# Altium footprint library jetson-tx-camera-adapter.PcbLib: 24 footprints (part 2 of 2)
Each footprint in its own frame and in the unit in brackets; x right, y up, seen from the top. Pads: shape width x height; smd on the part's side, far side on the other; paste and mask are expansions set on the pad; w line width, h text height; cw(c..) or ccw(c..) is an arc to the next point about the centre after c.
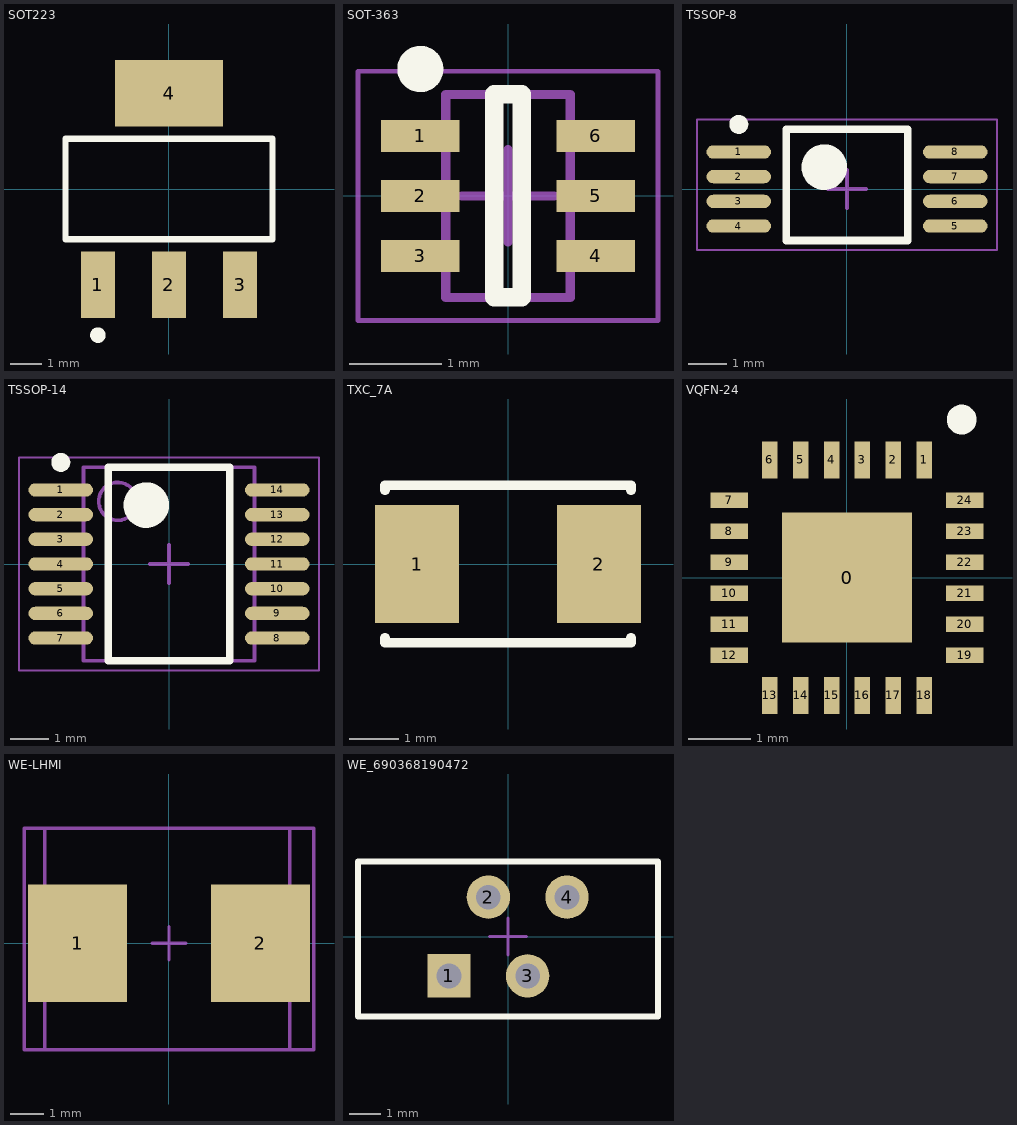
[diagram p1: the footprints below, top view; thin cyan lines are the x and y axes]

## SOT223 [mm] "SOT-223/SC-73; 4 Leads; Body 6.7 x 7.3 mm, inc. leads (LxW max)"
height 1.8
pads (4):
  rect 1.1x2.15 smd: 1(-2.3,-3.1) 2(0,-3.1) 3(2.3,-3.1)
  rect 3.5x2.15 smd: 4(0,3.1)
Top Overlay:
  circle w0.25: c-2.3,-4.725 r0.125
  lines w0.2: -3.35,-1.625 3.35,-1.625 3.35,1.625 -3.35,1.625 -3.35,-1.625
3D body: height 1.61, standoff -0.07, extent -3.25,-3.48 3.25,3.48

## SOT-363 [mm] "6-Leads, Body 2.00x2.10mm, Pitch 0.65mm, IPC Medium Density"
height 1.1
pads (6):
  rect 0.85x0.35 smd: 1(-0.95,0.65) 2(-0.95,0) 3(-0.95,-0.65) 4(0.95,-0.65) 5(0.95,0) 6(0.95,0.65)
Top Overlay:
  circle w0.25: c-0.95,1.375 r0.125
  lines w0.2: -0.15,-1.1 0.15,-1.1 0.15,1.1 -0.15,1.1 -0.15,-1.1
Mechanical 13:
  lines w0.1: -0.675,-1.1 -0.675,1.1 0.675,1.1 0.675,-1.1 -0.675,-1.1
Mechanical 15:
  lines w0.05: -1.625,-1.35 -1.625,1.35 1.625,1.35 1.625,-1.35 -1.625,-1.35
  lines w0.1: -0.5,0 0.5,0 ; 0,-0.5 0,0.5
3D body: height 1, standoff 0, extent -1.15,-1.05 1.15,1.05

## TSSOP-8 [mm]
height 1.1
pads (8):
  oval 1.7x0.35 smd: 1(-2.85,0.975) 2(-2.85,0.325) 3(-2.85,-0.325) 4(-2.85,-0.975) 5(2.85,-0.975) 6(2.85,-0.325) 7(2.85,0.325) 8(2.85,0.975)
Top Overlay:
  circle w0.6: c-0.6,0.575 r0.3
  circle w0.25: c-2.85,1.7 r0.125
  lines w0.2: -1.6,-1.356 1.6,-1.356 1.6,1.575 -1.6,1.575 -1.6,-1.356
Mechanical 3:
  lines w0.05: -3.95,-1.61 -3.95,1.825 3.95,1.825 3.95,-1.61 -3.95,-1.61
  lines w0.1: -0.5,0 0.5,0 ; 0,-0.5 0,0.5
3D body: height 1.21, standoff 0.01, extent -3.2,-1.5 3.2,1.5

## TSSOP-14 [mm]
height 1.1
pads (14):
  oval 1.7x0.35 smd: 1(-2.85,1.95) 2(-2.85,1.3) 3(-2.85,0.65) 4(-2.85,0) 5(-2.85,-0.65) 6(-2.85,-1.3) 7(-2.85,-1.95) 8(2.85,-1.95) 9(2.85,-1.3) 10(2.85,-0.65) 11(2.85,0) 12(2.85,0.65) 13(2.85,1.3) 14(2.85,1.95)
Top Overlay:
  circle w0.25: c-2.85,2.675 r0.125
  circle w0.6: c-0.6,1.55 r0.3
  lines w0.2: -1.6,-2.55 -1.6,2.55 1.6,2.55 1.6,-2.55 -1.6,-2.55
Mechanical 13:
  circle w0.1: c-1.35,1.65 r0.5
  lines w0.1: -2.25,-2.55 -2.25,2.55 2.25,2.55 2.25,-2.55 -2.25,-2.55
Mechanical 15:
  lines w0.05: -3.95,-2.8 -3.95,2.8 3.95,2.8 3.95,-2.8 -3.95,-2.8
  lines w0.1: -0.5,0 0.5,0 ; 0,-0.5 0,0.5
3D body: height 1.1, standoff 0.1, extent -2.25,-2.55 2.25,2.55

## TXC_7A [mm]
height 1.2
pads (2):
  rect 1.7x2.4 smd: 1(-1.85,0) 2(1.85,0)
Top Overlay:
  lines w0.2: -2.5,-1.5 -2.5,-1.6 2.5,-1.6 2.5,-1.5 ; -2.5,1.5 -2.5,1.6 2.5,1.6 2.5,1.5
3D body: height 1.35, standoff 0, extent -2.578,-1.676 2.578,1.676

## VQFN-24 [mm]
height 0.9
pads (25):
  rect 2.1x2.1 smd: 0(0,0)
  rect 0.25x0.6 smd: 1(1.25,1.9) 2(0.75,1.9) 3(0.25,1.9) 4(-0.25,1.9) 5(-0.75,1.9) 6(-1.25,1.9) 13(-1.25,-1.9) 14(-0.75,-1.9) 15(-0.25,-1.9) 16(0.25,-1.9) 17(0.75,-1.9) 18(1.25,-1.9)
  rect 0.6x0.25 smd: 7(-1.9,1.25) 8(-1.9,0.75) 9(-1.9,0.25) 10(-1.9,-0.25) 11(-1.9,-0.75) 12(-1.9,-1.25) 19(1.9,-1.25) 20(1.9,-0.75) 21(1.9,-0.25) 22(1.9,0.25) 23(1.9,0.75) 24(1.9,1.25)
Top Overlay:
  circle w0.3: c1.85,2.55 r0.09
3D body: height 0.8, standoff 0, extent -2.01,-2.01 2.01,2.01

## WE-LHMI [mm]
pads (2):
  rect 2.95x3.5 smd: 1(-2.725,0) 2(2.725,0)
Mechanical 13:
  lines w0.102: -3.708,-3.175 3.607,-3.175 3.607,3.429 -3.708,3.429 -3.708,-3.175
Mechanical 15:
  lines w0.102: -0.5,0 0.5,0 ; 0,-0.5 0,0.5 ; -4.318,-3.175 2.261,-3.175 4.318,-3.175 4.318,3.429 -4.318,3.429 -4.318,1.6 -4.318,-3.175
3D body: height 4.81, standoff 0.01, extent -3.708,-3.173 3.592,3.427

## WE_690368190472 [mm] "Female Connector, THT, Angled, 04p"
height 5.8
pads (4):
  rect 1.4x1.4 hole 0.8: 1(-1.905,-1.27)
  round 1.4 hole 0.8: 2(-0.635,1.27) 3(0.635,-1.27) 4(1.905,1.27)
Top Overlay:
  lines w0.2: -4.84,-2.58 4.84,-2.58 4.84,2.42 -4.84,2.42 -4.84,-2.58
Mechanical 15:
  lines w0.1: -0.6,0 0.6,0 ; 0,-0.6 0,0.6
3D body: height 5.85, standoff -3.05, extent -4.84,-2.58 4.84,2.42